# Altium schematic symbol library Capacitors.SchLib: 28 symbols
Pins are listed as number, name and electrical type; pins without a type are passive.

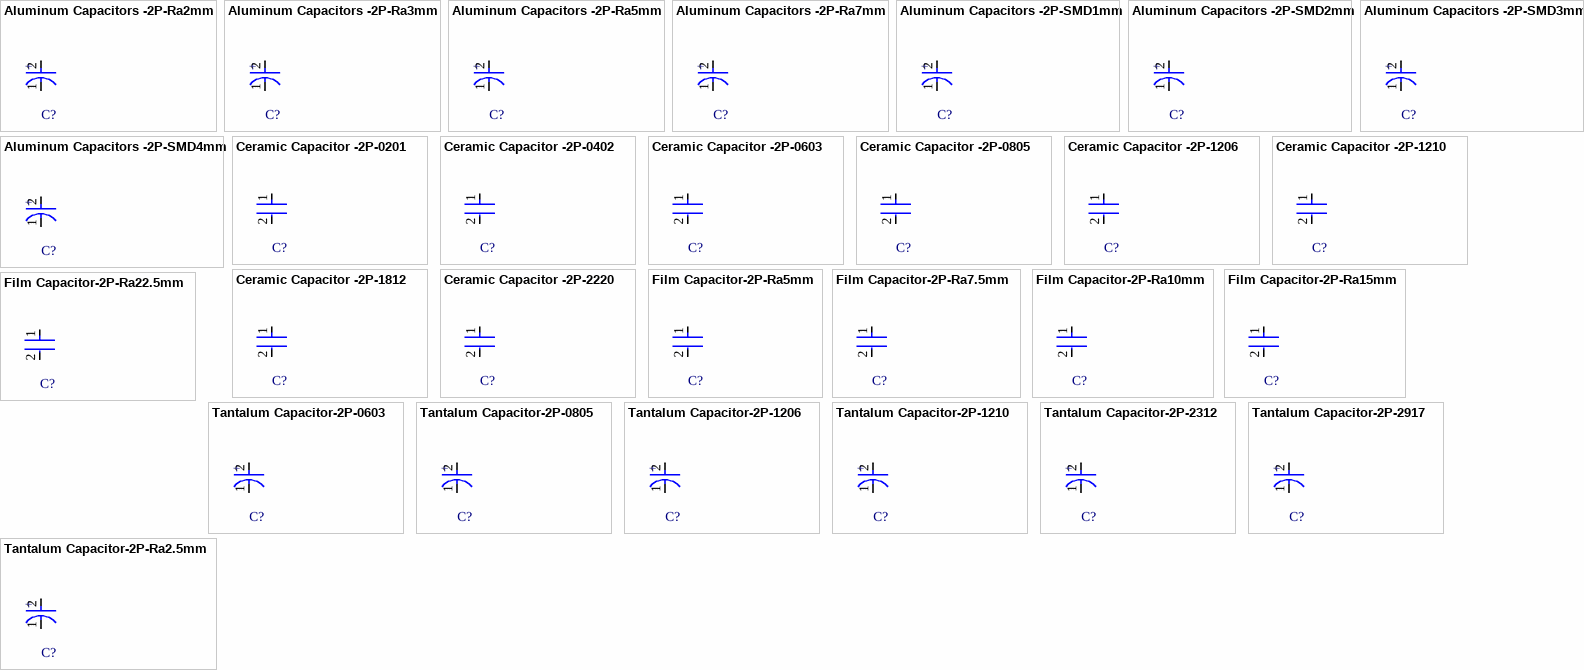
[diagram p0: symbols Aluminum Capacitors -2P-Ra2mm to Tantalum Capacitor-2P-Ra2.5mm]

## Aluminum Capacitors -2P-Ra2mm
designator C?
footprint Aluminum_Capacitors_Radial_2mm_5x7
footprint Aluminum_Capacitors_Radial_2mm_5x11
footprint Aluminum_Capacitors_Radial_2.5mm_6.3x7
footprint Aluminum_Capacitors_Radial_2.5mm_6.3x11
pins: 1 C, 2 A
text: +

## Aluminum Capacitors -2P-Ra3mm
designator C?
footprint Aluminum_Capacitors_Radial_3.5mm_8x7
footprint Aluminum_Capacitors_Radial_3.5mm_8x9
footprint Aluminum_Capacitors_Radial_3.5mm_8x11.5
footprint Aluminum_Capacitors_Radial_3.5mm_8x15
pins: 1 C, 2 A
text: +

## Aluminum Capacitors -2P-Ra5mm
designator C?
footprint Aluminum_Capacitors_Radial_5mm_10x12
footprint Aluminum_Capacitors_Radial_5mm_10x16
footprint Aluminum_Capacitors_Radial_5mm_10x20
footprint Aluminum_Capacitors_Radial_5mm_10x25
pins: 1 C, 2 A
text: +

## Aluminum Capacitors -2P-Ra7mm
designator C?
footprint Aluminum_Capacitors_Radial_7.5mm_16x15
footprint Aluminum_Capacitors_Radial_7.5mm_16x20
footprint Aluminum_Capacitors_Radial_7.5mm_16x25
footprint Aluminum_Capacitors_Radial_7.5mm_16x31.5
footprint Aluminum_Capacitors_Radial_7.5mm_18x35.5
pins: 1 C, 2 A
text: +

## Aluminum Capacitors -2P-SMD1mm
designator C?
footprint Aluminum_Capacitors_SMD_1mm_4x5.8
footprint Aluminum_Capacitors_SMD_1.5mm_5x5.4
footprint Aluminum_Capacitors_SMD_1.8mm_6.3x5.4
footprint Aluminum_Capacitors_SMD_1.8mm_6.3x5.8
pins: 1 C, 2 A
text: +

## Aluminum Capacitors -2P-SMD2mm
designator C?
footprint Aluminum_Capacitors_SMD_2mm_6.3x5.9
footprint Aluminum_Capacitors_SMD_2.2mm_8x6.2
pins: 1 C, 2 A
text: +

## Aluminum Capacitors -2P-SMD3mm
designator C?
footprint Aluminum_Capacitors_SMD_3mm_8x10
footprint Aluminum_Capacitors_SMD_3mm_8x10.5
pins: 1 C, 2 A
text: +

## Aluminum Capacitors -2P-SMD4mm
designator C?
footprint Aluminum_Capacitors_SMD_4mm_10x10
footprint Aluminum_Capacitors_SMD_4mm_10x12
footprint Aluminum_Capacitors_SMD_4.3mm_10x7.9
footprint Aluminum_Capacitors_SMD_4.3mm_10x12.6
footprint Aluminum_Capacitors_SMD_4.6mm_10x10.2
pins: 1 C, 2 A
text: +

## Ceramic Capacitor -2P-0201
designator C?
footprint Ceramic_Capacitor_0201-A
footprint Ceramic_Capacitor_0201-B
footprint Ceramic_Capacitor_0201-C
footprint Ceramic_Capacitor_0201-MFG
pins: 1, 2

## Ceramic Capacitor -2P-0402
designator C?
footprint Ceramic_Capacitor_0402-A
footprint Ceramic_Capacitor_0402-B
footprint Ceramic_Capacitor_0402-C
footprint Ceramic_Capacitor_0402-MFG
pins: 1, 2

## Ceramic Capacitor -2P-0603
designator C?
footprint Ceramic_Capacitor_0603-A
footprint Ceramic_Capacitor_0603-B
footprint Ceramic_Capacitor_0603-C
footprint Ceramic_Capacitor_0603-MFG
pins: 1, 2

## Ceramic Capacitor -2P-0805
designator C?
footprint Ceramic_Capacitor_0805-A
footprint Ceramic_Capacitor_0805-B
footprint Ceramic_Capacitor_0805-C
footprint Ceramic_Capacitor_0805-MFG
pins: 1, 2

## Ceramic Capacitor -2P-1206
designator C?
footprint Ceramic_Capacitor_1206-A
footprint Ceramic_Capacitor_1206-B
footprint Ceramic_Capacitor_1206-C
footprint Ceramic_Capacitor_1206-MFG
pins: 1, 2

## Ceramic Capacitor -2P-1210
designator C?
footprint Ceramic_Capacitor_1210-A
footprint Ceramic_Capacitor_1210-B
footprint Ceramic_Capacitor_1210-C
footprint Ceramic_Capacitor_1210-MFG
pins: 1, 2

## Ceramic Capacitor -2P-1812
designator C?
footprint Ceramic_Capacitor_1812-A
footprint Ceramic_Capacitor_1812-B
footprint Ceramic_Capacitor_1812-C
footprint Ceramic_Capacitor_1812-MFG
pins: 1, 2

## Ceramic Capacitor -2P-2220
designator C?
footprint Ceramic_Capacitor_2220-A
footprint Ceramic_Capacitor_2220-B
footprint Ceramic_Capacitor_2220-C
footprint Ceramic_Capacitor_2220-MFG
pins: 1, 2

## Film Capacitor-2P-Ra5mm
designator C?
footprint Film Capacitor_Radial_5mm_7.2x2.5x6
footprint Film Capacitor_Radial_5mm_7.2x3.5x8
footprint Film Capacitor_Radial_5mm_7.2x4.5x6
footprint Film Capacitor_Radial_5mm_15.3x7x19
pins: 1, 2

## Film Capacitor-2P-Ra7.5mm
designator C?
footprint Film Capacitor_Radial_7.5mm_10x4x8
footprint Film Capacitor_Radial_7.5mm_10x4x9
footprint Film Capacitor_Radial_7.5mm_10x6x11.5
footprint Film Capacitor_Radial_7.5mm_13x5x14
footprint Film Capacitor_Radial_7.5mm_18.2x6x16.2
pins: 1, 2

## Film Capacitor-2P-Ra10mm
designator C?
footprint Film Capacitor_Radial_10mm_12.3x6.7x11.9
footprint Film Capacitor_Radial_10mm_12.5x5.9x9.9
footprint Film Capacitor_Radial_10mm_13x8.7x7.9
footprint Film Capacitor_Radial_10mm_17.8x5.5x13.2
pins: 1, 2

## Film Capacitor-2P-Ra15mm
designator C?
footprint Film Capacitor_Radial_15mm_17.5x6x12
footprint Film Capacitor_Radial_15mm_18x7.5x13.5
pins: 1, 2

## Film Capacitor-2P-Ra22.5mm
designator C?
footprint Film Capacitor_Radial_22.5mm_26.5x10x18.5
pins: 1, 2

## Tantalum Capacitor-2P-0603
designator C?
footprint Tantalum_Capacitor_0603-MFG
pins: 1 C, 2 A
text: +

## Tantalum Capacitor-2P-0805
designator C?
footprint Tantalum_Capacitor_0805-MFG
pins: 1 C, 2 A
text: +

## Tantalum Capacitor-2P-1206
designator C?
footprint Tantalum_Capacitor_1206_MFG
pins: 1 C, 2 A
text: +

## Tantalum Capacitor-2P-1210
designator C?
footprint Tantalum_Capacitor_1210-MFG
pins: 1 C, 2 A
text: +

## Tantalum Capacitor-2P-2312
designator C?
footprint Tantalum_Capacitor_2312-MFG
pins: 1 C, 2 A
text: +

## Tantalum Capacitor-2P-2917
designator C?
footprint Tantalum_Capacitor_2917-MFG
pins: 1 C, 2 A
text: +

## Tantalum Capacitor-2P-Ra2.5mm
designator C?
footprint Tantalum_Capacitor_Radial_2.5mm_4.5x7
footprint Tantalum_Capacitor_Radial_2.5mm_5x9
pins: 1 C, 2 A
text: +